# EAGLE library part TPS61220 (library CougsInSpace-IC-Power)
DC/DC Converter Boost 200mA TPS61220 <https://github.com/CougsInSpace/Resources/blob/master/SupplierDocuments/Ti/TPS61220_BoostConverter.pdf>
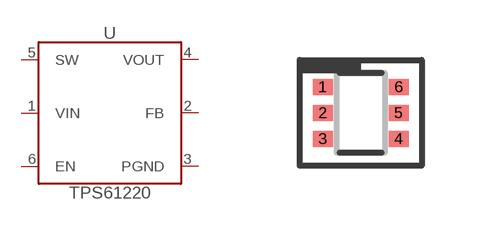
[diagram p5: symbol with the pads of SOT363; footprint SOT363]

Designator prefix U

## TPS61220 (SKU: 60-0007; VALUE: TPS61220)  [SOT363]
1  VIN  in
2  FB  in
3  PGND  pwr
4  VOUT  out
5  SW  in
6  EN  in

## Footprint SOT363 (pad centres in mm)
SOT363 (SC70-6)
smd 0.5 x 0.4: 1 -0.95,0.65; 2 -0.95,0; 3 -0.95,-0.65; 4 0.95,-0.65; 5 0.95,0; 6 0.95,0.65